# EAGLE library part 61002413321 (library Wurth_Elektronik2)
WR-PHD 2.54mm SMT Socket Header, 24 Pins =>Code : CON_BTB_SHD_2.54_1_SMT_61002413321 <http://katalog.we-online.de/media/images/eican/Con_BTB_SHD_2.54_1_SMT_6100xx11921_pf2.jpg> Details see: http://katalog.we-online.de/en/em/610_0xx_119_21 Created 2014-05-30, Karrer Zheng 2014 (C) Würth Elektronik
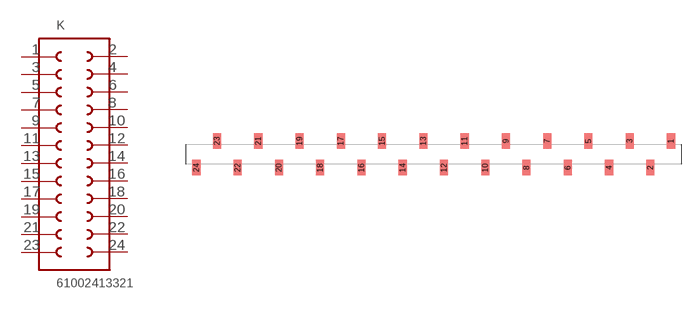
[diagram p211: symbol with the pads of 61002413321; footprint 61002413321]

Designator prefix K

## 61002413321  [61002413321]
1  1  pas
2  24  pas
3  2  pas
4  23  pas
5  3  pas
6  22  pas
7  4  pas
8  21  pas
9  5  pas
10  20  pas
11  6  pas
12  19  pas
13  7  pas
14  18  pas
15  8  pas
16  17  pas
17  9  pas
18  16  pas
19  10  pas
20  15  pas
21  11  pas
22  14  pas
23  12  pas
24  13  pas

## Footprint 61002413321 (pad centres in mm)
WR-PHD 2.54mm SMT Socket Header, 24 Pins
smd 1 x 1.91: 1 29.21,1.645; 2 26.67,-1.645; 3 24.13,1.645; 4 21.59,-1.645; 5 19.05,1.645; 6 16.51,-1.645; 7 13.97,1.645; 8 11.43,-1.645; 9 8.89,1.645; 10 6.35,-1.645; 11 3.81,1.645; 12 1.27,-1.645; 13 -1.27,1.645; 14 -3.81,-1.645; 15 -6.35,1.645; 16 -8.89,-1.645; 17 -11.43,1.645; 18 -13.97,-1.645; 19 -16.51,1.645; 20 -19.05,-1.645; 21 -21.59,1.645; 22 -24.13,-1.645; 23 -26.67,1.645; 24 -29.21,-1.645